# EAGLE library part DTM15-12PA (library DTM15-12PA)
DEUTSCH Automotive; DTM RECP ASM
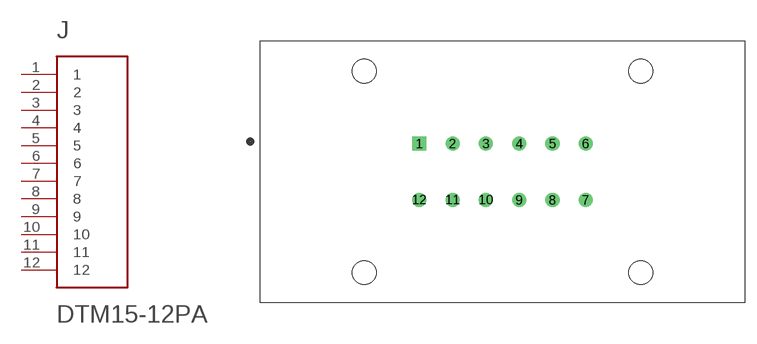
[diagram p0: symbol with the pads of TE_DTM15-12PA; footprint TE_DTM15-12PA]

Designator prefix J

## DTM15-12PA (AVAILABILITY: In stock; DESCRIPTION: DEUTSCH Automotive; DTM RECP ASM; MF: TE Connectivity; MPN: DTM15-12PA; PARTREV: B; STANDARD: Manufacturer recommendation)  [TE_DTM15-12PA]
1  1  pas
2  2  pas
3  3  pas
4  4  pas
5  5  pas
6  6  pas
7  7  pas
8  8  pas
9  9  pas
10  10  pas
11  11  pas
12  12  pas

## Footprint TE_DTM15-12PA (pad centres in mm)
drill 1.19 square: 1 -10.475,3.555
drill 1.19: 2 -6.285,3.555; 3 -2.095,3.555; 4 2.095,3.555; 5 6.285,3.555; 6 10.475,3.555; 7 10.475,-3.555; 8 6.285,-3.555; 9 2.095,-3.555; 10 -2.095,-3.555; 11 -6.285,-3.555; 12 -10.475,-3.555
hole 2.99 at -17.41,-12.7
hole 2.99 at -17.41,12.7
hole 2.99 at 17.41,12.7
hole 2.99 at 17.41,-12.7